# EAGLE library part TMUX1204DGSR (library Hocki_Library)
Multiplexer 1 Circuit IC Switch 4:1 5Ohm (Typ) 10-VSSOP DigiKey <https://www.digikey.com/product-detail/en/texas-instruments/TMUX1204DGSR/296-TMUX1204DGSRCT-ND/10435076>
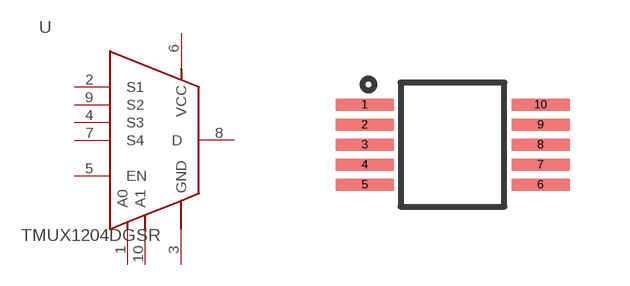
[diagram p7: symbol with the pads of 10-VSSOP; footprint 10-VSSOP]

Designator prefix U

## TMUX1204DGSR (DKPN: 296-TMUX1204DGSRCT-ND)  [10-VSSOP]
1  A0  pas
2  S1  pas
3  GND  pas
4  S3  pas
5  EN  pas
6  VCC  pas
7  S4  pas
8  D  pas
9  S2  pas
10  A1  pas

## Footprint 10-VSSOP (pad centres in mm)
smd 1.45 x 0.3: 1 -2.2,1; 2 -2.2,0.5; 3 -2.2,0; 4 -2.2,-0.5; 5 -2.2,-1; 6 2.2,-1; 7 2.2,-0.5; 8 2.2,0; 9 2.2,0.5; 10 2.2,1